# Altium footprint library ZG-Mxx.PcbLib: 6 footprints
Each footprint in its own frame and in the unit in brackets; x right, y up, seen from the top. Pads: shape width x height; smd on the part's side, far side on the other; paste and mask are expansions set on the pad; w line width, h text height; cw(c..) or ccw(c..) is an arc to the next point about the centre after c.
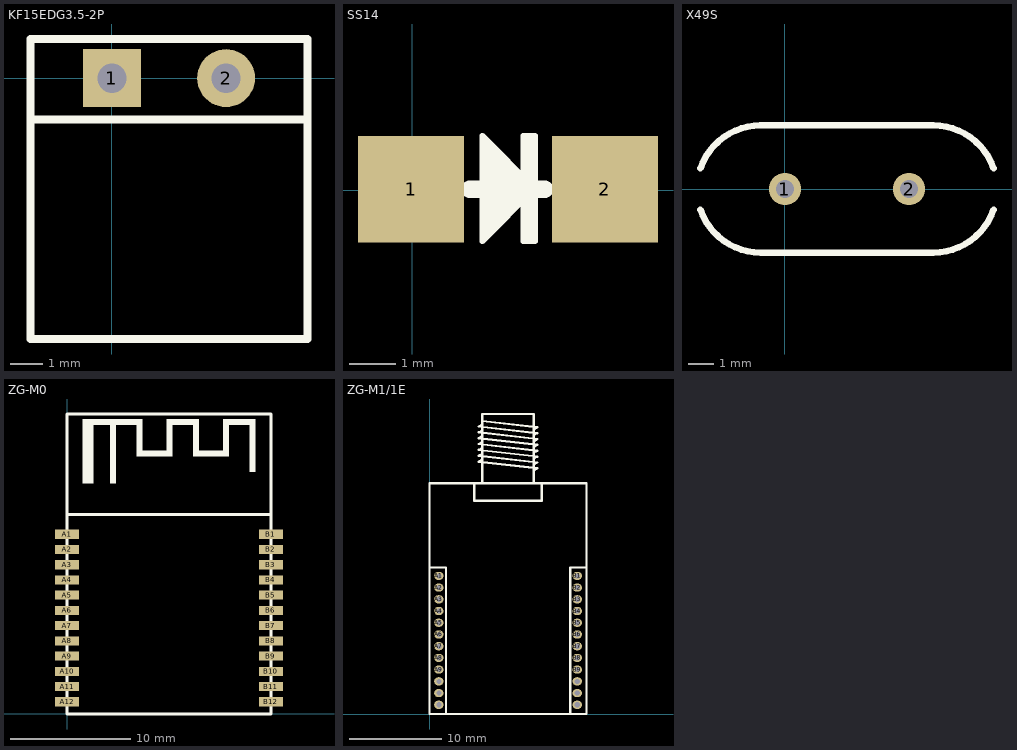
[diagram p0: the footprints below, top view; thin cyan lines are the x and y axes]

## KF15EDG3.5-2P [mil]
pads (2):
  rect 70x70 hole 35.43: 1(0,0)
  round 70 hole 35.43: 2(137.8,0)
Top Overlay:
  lines w10: -98.43,-50 236.22,-50 ; -98.43,-315 -98.43,47.24 236.22,47.24 236.22,-314.96 -98.43,-315

## PCBComponent_1 [mil]

## SS14 [mm]
pads (2):
  rect 2.3x2.3 smd: 1(-0.025,0.025) 2(4.175,0.025)
Top Overlay:
  region: 2.184,0.225 2.32,0.357 1.595,1.105 1.459,0.974
  region: 1.468,-0.781 1.899,-0.78 1.896,0.871 1.465,0.87
  region: 2.535,-0.056 2.235,0.254 1.487,-0.47 1.787,-0.78
  region: 2.231,-0.165 2.541,0.135 1.817,0.883 1.507,0.583
  region: 2.506,-0.162 2.506,0.27 1.49,0.27 1.49,-0.162
  region: 2.659,-1.102 2.659,1.184 2.405,1.184 2.405,-1.102
  region: 2.347,-0.258 2.215,-0.122 1.467,-0.846 1.598,-0.982
  lines w0.127: 1.516,-1.102 2.659,0.041 1.516,1.184 1.516,-1.102 ; 2.405,-1.102 2.659,-1.102 2.659,1.184 2.405,1.184 2.405,-1.102
  lines w0.381: 1.245,0.025 2.87,0.025

## X49S [mil]
height 78.74
pads (2):
  round 50 hole 28: 1(0,0) 2(192.13,0)
Top Overlay:
  lines w10: -130.92,-31.85 ccw(c-37.79,0) -37.79,-98.42 ; -130.92,31.85 cw(c-37.79,0) -37.79,98.43 ; -38,98.42 229.92,98.43 cw(c229.92,0) 323.05,31.85 ; -37.8,-98.43 229.92,-98.42 ccw(c229.92,0) 323.05,-31.85

## ZG-M0 [mil]
pads (24):
  rect 80x30 smd: A1(0,589.52) A2(0,539.52) A3(0,489.52) A4(0,439.52) A5(0,389.52) A6(0,339.52) A7(0,289.52) A8(0,239.52) A9(0,189.52) A10(0,139.52) A11(0,89.52) A12(0,39.52) B1(669.29,589.52) B2(669.29,539.52) B3(669.29,489.52) B4(669.29,439.52) B5(669.29,389.52) B6(669.29,339.52) B7(669.29,289.52) B8(669.29,239.52) B9(669.29,189.52) B10(669.29,139.52) B11(669.29,89.52) B12(669.29,39.52)
Top Overlay:
  rectangle: 50.94,755.52 86.37,956.52
  rectangle: 51,948.5 247.85,968.19
  rectangle: 141.56,755.59 161.24,957.59
  rectangle: 228.17,844.57 247.85,955.59
  rectangle: 238,844.57 338,864.25
  rectangle: 326.59,844.57 346.28,955.59
  rectangle: 326.59,948.5 432.89,968.19
  rectangle: 424,844.57 522,864.25
  rectangle: 413.21,844.57 432.89,955.59
  rectangle: 511.63,844.57 531.32,955.59
  rectangle: 511.63,948.5 617.93,968.19
  rectangle: 598.18,793.31 617.87,955.52
  lines w10: 0,654.15 669.29,654.15 ; 669.29,0 0,0 0,984.15 669.29,984.15 669.29,0.79

## ZG-M1/1E [mil]
pads (24):
  oval 40x35 hole 22: A1(39.54,589.3) A2(39.54,539.3) A3(39.54,489.3) A4(39.54,439.3) A5(39.54,389.3) A6(39.54,339.3) A7(39.54,289.3) A8(39.54,239.3) A9(39.54,189.3) A10(39.54,139.3) A11(39.54,89.3) A12(39.54,39.3) B1(629.91,589.3) B2(629.91,539.3) B3(629.91,489.3) B4(629.91,439.3) B5(629.91,389.3) B6(629.91,339.3) B7(629.91,289.3) B8(629.91,239.3) B9(629.91,189.3) B10(629.91,139.3) B11(629.91,89.3) B12(629.91,39.3)
Top Overlay:
  lines w10: 0,625 70,625 70,0 ; 225,984.15 225,1280 445,1280 445,984.15 ; 225,1085 209.63,1076.75 460.37,1048.25 445,1040 ; 225,1110 210.19,1101.68 460.37,1073.25 445,1065 ; 225,1135 209.63,1126.75 459.81,1098.32 445,1090 ; 225,1160 209.63,1151.75 459.81,1123.32 445,1115 ; 225,1185 210.19,1176.68 459.81,1148.32 445,1140 ; 225,1210 210.19,1201.68 459.81,1173.32 445,1160 ; 225,1235 210.19,1226.68 459.81,1198.32 445,1190 ; 225,1250 459.81,1223.32 445,1215 ; 600,0 600,625 669.29,625 ; 190,984.15 0,984.15 0,0 669.29,0 669.29,984.15 479.29,984.15 ; 190,984.15 190,910 479.29,910 479.29,984.15 ; 190,984.15 479.29,984.15